# Altium footprint library QFP80P2390X1790X340-80N.PcbLib: 1 footprints
Each footprint in its own frame and in the unit in brackets; x right, y up, seen from the top. Pads: shape width x height; smd on the part's side, far side on the other; paste and mask are expansions set on the pad; w line width, h text height; cw(c..) or ccw(c..) is an arc to the next point about the centre after c.
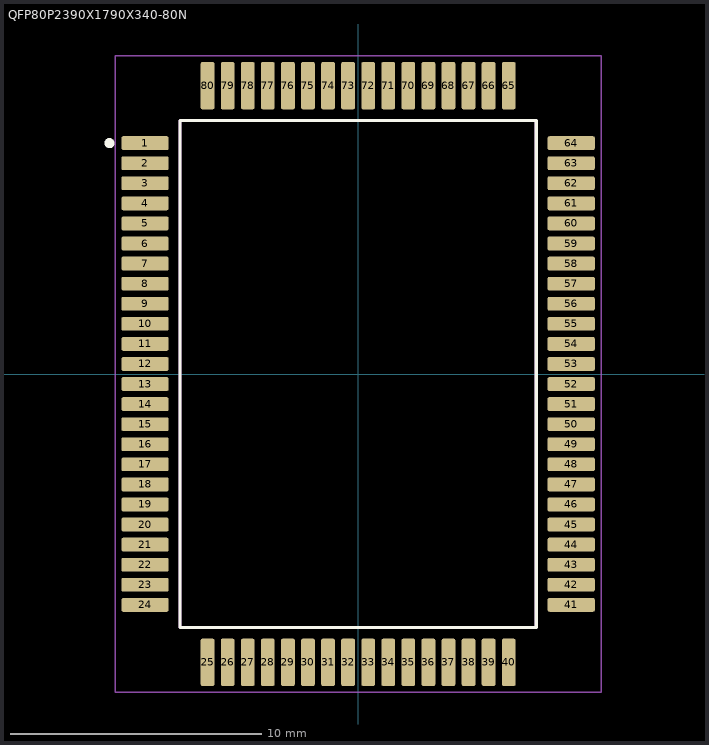
[diagram p0: the footprint, top view; thin cyan lines are the x and y axes]

## QFP80P2390X1790X340-80N [mm]
pads (80):
  rrect25% 1.88x0.55 smd: 1(-8.49,9.2) 2(-8.49,8.4) 3(-8.49,7.6) 4(-8.49,6.8) 5(-8.49,6) 6(-8.49,5.2) 7(-8.49,4.4) 8(-8.49,3.6) 9(-8.49,2.8) 10(-8.49,2) 11(-8.49,1.2) 12(-8.49,0.4) 13(-8.49,-0.4) 14(-8.49,-1.2) 15(-8.49,-2) 16(-8.49,-2.8) 17(-8.49,-3.6) 18(-8.49,-4.4) 19(-8.49,-5.2) 20(-8.49,-6) 21(-8.49,-6.8) 22(-8.49,-7.6) 23(-8.49,-8.4) 24(-8.49,-9.2) 41(8.49,-9.2) 42(8.49,-8.4) 43(8.49,-7.6) 44(8.49,-6.8) 45(8.49,-6) 46(8.49,-5.2) 47(8.49,-4.4) 48(8.49,-3.6) 49(8.49,-2.8) 50(8.49,-2) 51(8.49,-1.2) 52(8.49,-0.4) 53(8.49,0.4) 54(8.49,1.2) 55(8.49,2) 56(8.49,2.8) 57(8.49,3.6) 58(8.49,4.4) 59(8.49,5.2) 60(8.49,6) 61(8.49,6.8) 62(8.49,7.6) 63(8.49,8.4) 64(8.49,9.2)
  rrect25% 0.55x1.88 smd: 25(-6,-11.49) 26(-5.2,-11.49) 27(-4.4,-11.49) 28(-3.6,-11.49) 29(-2.8,-11.49) 30(-2,-11.49) 31(-1.2,-11.49) 32(-0.4,-11.49) 33(0.4,-11.49) 34(1.2,-11.49) 35(2,-11.49) 36(2.8,-11.49) 37(3.6,-11.49) 38(4.4,-11.49) 39(5.2,-11.49) 40(6,-11.49) 65(6,11.49) 66(5.2,11.49) 67(4.4,11.49) 68(3.6,11.49) 69(2.8,11.49) 70(2,11.49) 71(1.2,11.49) 72(0.4,11.49) 73(-0.4,11.49) 74(-1.2,11.49) 75(-2,11.49) 76(-2.8,11.49) 77(-3.6,11.49) 78(-4.4,11.49) 79(-5.2,11.49) 80(-6,11.49)
Top Overlay:
  circle w0.2: c-9.91,9.201 r0.1
  lines w0.127: -7.1,-10.1 7.1,-10.1 7.1,10.1 -7.1,10.1 -7.1,-10.1
Mechanical 13:
  lines w0.127: -7.1,-10.1 7.1,-10.1 7.1,10.1 -7.1,10.1 -7.1,-10.1
Mechanical 15:
  lines w0.05: -9.68,-12.68 9.68,-12.68 9.68,12.68 -9.68,12.68 -9.68,-12.68